# Altium footprint library DIP-R  0607.PCBLib: 42 footprints (part 3 of 3)
Each footprint in its own frame and in the unit in brackets; x right, y up, seen from the top. Pads: shape width x height; smd on the part's side, far side on the other; paste and mask are expansions set on the pad; w line width, h text height; cw(c..) or ccw(c..) is an arc to the next point about the centre after c.
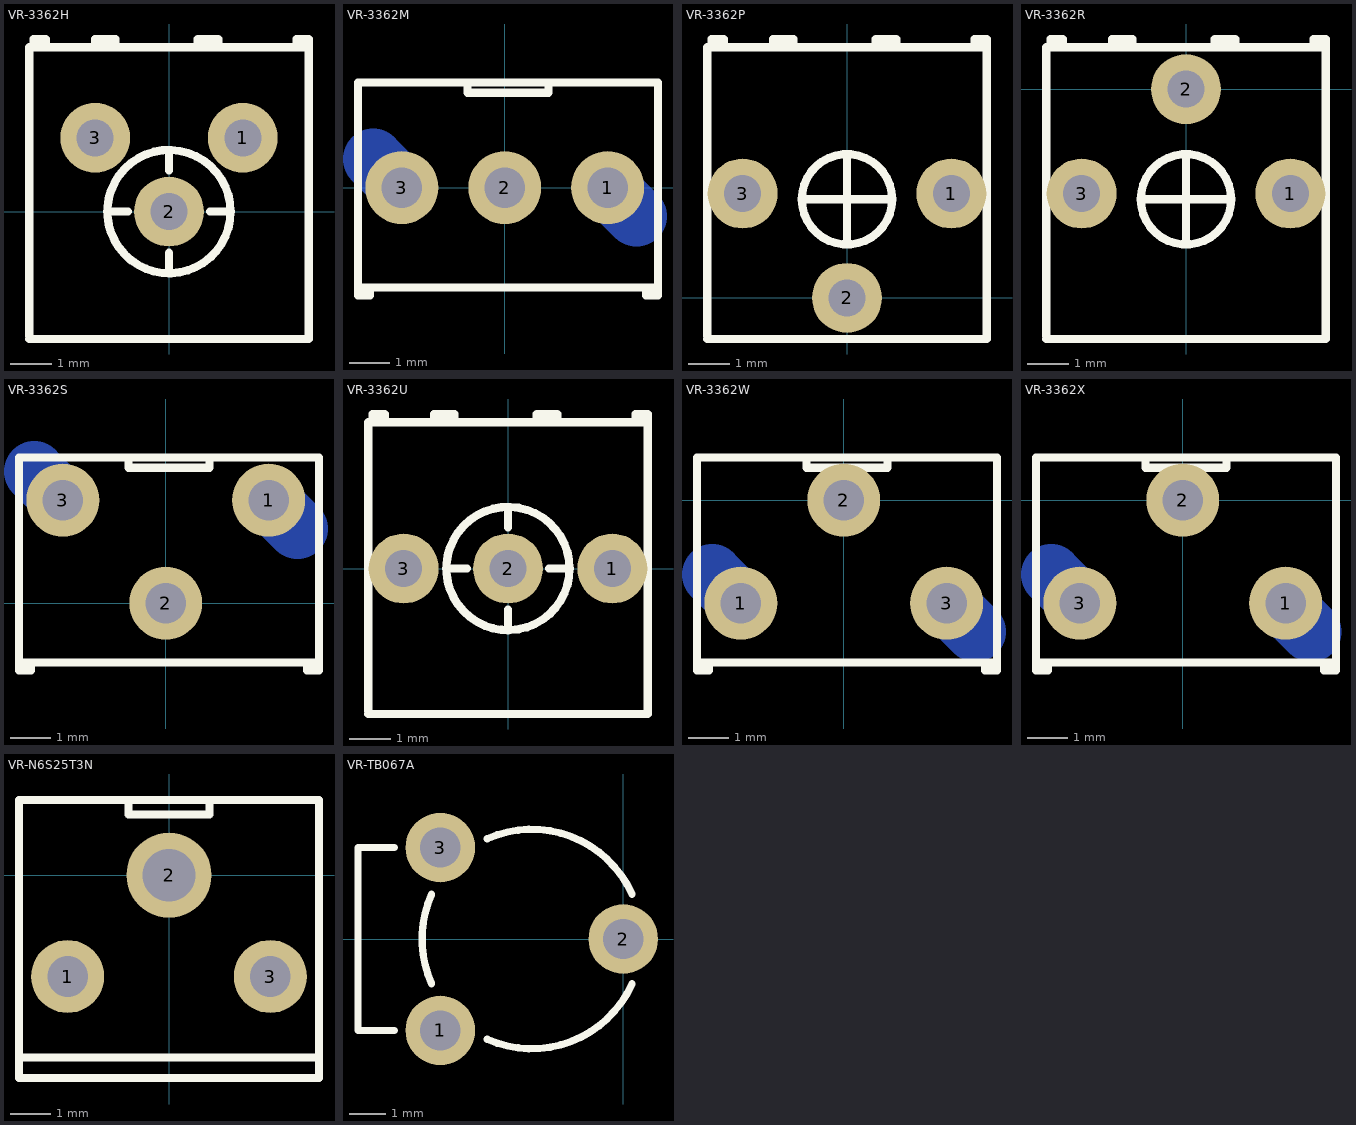
[diagram p2: the footprints below, top view; thin cyan lines are the x and y axes]

## VR-3362H [mm]
height 6.99
pads (3):
  round 1.7 hole 0.9: 1(1.796,1.796) 2(0,0) 3(-1.796,1.796)
Top Overlay:
  circle w0.2: c0,0 r1.5
  lines w0.2: -3.4,-3.1 3.4,-3.1 3.4,4 ; -3.4,-3.02 -3.4,3.97 ; -3.4,4 3.4,4 ; -3.3,4 -3.3,4.2 -3,4.2 -3,4 ; -1.8,4 -1.8,4.2 -1.3,4.2 -1.3,4 ; -1.5,0 -1,0 ; 0,-1.5 0,-1 ; 0,1 0,1.5 ; 0.7,4 0.7,4.2 1.2,4.2 1.2,4 ; 1,0 1.5,0 ; 3.1,4 3.1,4.2 3.4,4.2 3.4,4

## VR-3362M [mm]
height 6.99
pads (3):
  round 1.8 hole 1: 1(2.54,0) 2(0,0) 3(-2.54,0)
Bottom Layer:
  lines w1.5: -3.247,0.707 -2.54,0 ; 2.54,0 3.247,-0.707
Top Overlay:
  lines w0.2: -3.62,2.54 -3.62,-2.46 ; -3.62,2.59 3.78,2.59 ; -3.32,-2.46 -3.32,-2.66 -3.62,-2.66 -3.62,-2.46 ; -0.92,2.59 -0.92,2.34 1.08,2.34 1.08,2.59 ; 3.48,-2.46 3.48,-2.66 3.78,-2.66 3.78,-2.46 ; 3.78,2.54 3.78,-2.46 ; -3.62,-2.46 3.78,-2.46
Bottom Overlay:
  lines w0.5: -1.27,-0.8 -1.27,0.8 ; 1.27,-0.8 1.27,0.8
Bottom Solder:
  lines w1: -3.247,0.707 -2.54,0 ; 2.54,0 3.247,-0.707

## VR-3362P [mm]
height 6.99
pads (3):
  round 1.7 hole 0.9: 1(2.54,2.54) 2(0,0) 3(-2.54,2.54)
Top Overlay:
  circle w0.2: c0,2.4 r1.1
  lines w0.2: -3.4,-1 3.4,-1 3.4,6.1 ; -3.4,-0.92 -3.4,6.07 ; -3.4,6.1 3.4,6.1 ; -3.3,6.1 -3.3,6.3 -3,6.3 -3,6.1 ; -1.8,6.1 -1.8,6.3 -1.3,6.3 -1.3,6.1 ; -1.1,2.4 1,2.4 ; 0,1.3 0,3.5 ; 0.7,6.1 0.7,6.3 1.2,6.3 1.2,6.1 ; 3.1,6.1 3.1,6.3 3.4,6.3 3.4,6.1

## VR-3362R [mm]
height 6.99
pads (3):
  round 1.7 hole 0.9: 1(2.54,-2.54) 2(0,0) 3(-2.54,-2.54)
Top Overlay:
  circle w0.2: c0,-2.68 r1.1
  lines w0.2: -3.4,-6.08 3.4,-6.08 3.4,1.02 ; -3.4,-6 -3.4,0.99 ; -3.4,1.02 3.4,1.02 ; -3.3,1.02 -3.3,1.22 -3,1.22 -3,1.02 ; -1.8,1.02 -1.8,1.22 -1.3,1.22 -1.3,1.02 ; -1.1,-2.68 1,-2.68 ; 0,-3.78 0,-1.58 ; 0.7,1.02 0.7,1.22 1.2,1.22 1.2,1.02 ; 3.1,1.02 3.1,1.22 3.4,1.22 3.4,1.02

## VR-3362S [mm]
height 6.99
pads (3):
  round 1.8 hole 1: 1(2.54,2.54) 2(0,0) 3(-2.54,2.54)
Bottom Layer:
  lines w1.5: -3.247,3.247 -2.54,2.54 ; 2.54,2.54 3.247,1.833
Top Overlay:
  lines w0.2: -3.62,3.54 -3.62,-1.46 ; -3.62,3.59 3.78,3.59 ; -3.32,-1.46 -3.32,-1.66 -3.62,-1.66 -3.62,-1.46 ; -0.92,3.59 -0.92,3.34 1.08,3.34 1.08,3.59 ; 3.48,-1.46 3.48,-1.66 3.78,-1.66 3.78,-1.46 ; 3.78,3.54 3.78,-1.46 ; -3.62,-1.46 3.78,-1.46
Bottom Solder:
  lines w1: -3.247,3.247 -2.54,2.54 ; 2.54,2.54 3.247,1.833

## VR-3362U [mm]
height 6.99
pads (3):
  round 1.7 hole 0.9: 1(2.54,0) 2(0,0) 3(-2.54,0)
Top Overlay:
  circle w0.2: c0,0 r1.5
  lines w0.2: -3.4,-3.54 3.4,-3.54 3.4,3.56 ; -3.4,-3.46 -3.4,3.53 ; -3.4,3.56 3.4,3.56 ; -3.3,3.56 -3.3,3.76 -3,3.76 -3,3.56 ; -1.8,3.56 -1.8,3.76 -1.3,3.76 -1.3,3.56 ; -1.5,0 -1,0 ; 0,-1.5 0,-1 ; 0,1 0,1.5 ; 0.7,3.56 0.7,3.76 1.2,3.76 1.2,3.56 ; 1,0 1.5,0 ; 3.1,3.56 3.1,3.76 3.4,3.76 3.4,3.56

## VR-3362W [mm]
height 6.99
pads (3):
  round 1.8 hole 1: 1(-2.54,-2.54) 2(0,0) 3(2.54,-2.54)
Bottom Layer:
  lines w1.5: -3.247,-1.833 -2.54,-2.54 ; 2.54,-2.54 3.247,-3.247
Top Overlay:
  lines w0.2: -3.32,-4 -3.32,-4.2 -3.62,-4.2 -3.62,-4 ; -0.92,1.05 -0.92,0.8 1.08,0.8 1.08,1.05 ; 3.48,-4 3.48,-4.2 3.78,-4.2 3.78,-4 ; -3.62,-4 3.78,-4 ; -3.62,-4 -3.62,1.05 3.78,1.05 3.78,-4
Bottom Solder:
  lines w1: -3.247,-1.833 -2.54,-2.54 ; 2.54,-2.54 3.247,-3.247

## VR-3362X [mm]
height 6.99
pads (3):
  round 1.8 hole 1: 1(2.54,-2.54) 2(0,0) 3(-2.54,-2.54)
Bottom Layer:
  lines w1.5: -3.247,-1.833 -2.54,-2.54 ; 2.539,-2.619 2.54,-2.62 3.167,-3.247
Top Overlay:
  lines w0.2: -3.62,1 -3.62,-4 ; -3.62,1.05 3.78,1.05 ; -3.32,-4 -3.32,-4.2 -3.62,-4.2 -3.62,-4 ; -0.92,1.05 -0.92,0.8 1.08,0.8 1.08,1.05 ; 3.48,-4 3.48,-4.2 3.78,-4.2 3.78,-4 ; 3.78,1 3.78,-4 ; -3.62,-4 3.78,-4
Bottom Solder:
  lines w1: -3.247,-1.833 -2.54,-2.54 ; 2.54,-2.54 3.247,-3.247

## VR-N6S25T3N [mm]
pads (3):
  round 1.8 hole 1: 1(-2.5,-2.5) 3(2.5,-2.5)
  round 2.1 hole 1.3: 2(0,0)
Top Overlay:
  lines w0.2: -3.7,-4.5 3.7,-4.5 ; -1,1.85 -1,1.5 1,1.5 1,1.85 ; -3.7,-5 -3.7,1.85 3.7,1.85 3.7,-5 -3.7,-5

## VR-TB067A [mm]
pads (3):
  round 1.9 hole 1.1: 1(-5,-2.5) 2(0,0) 3(-5,2.5)
Top Overlay:
  lines w0.2: -6.25,-2.5 -7.25,-2.5 -7.25,2.5 -6.25,2.5 ; -5.241,-1.22 cw(c-2.5,0) -5.241,1.22 ; -3.72,-2.741 ccw(c-2.5,0) 0.241,-1.22 ; -3.72,2.741 cw(c-2.5,0) 0.241,1.22